# EAGLE library part MP6530 (library my_ic)
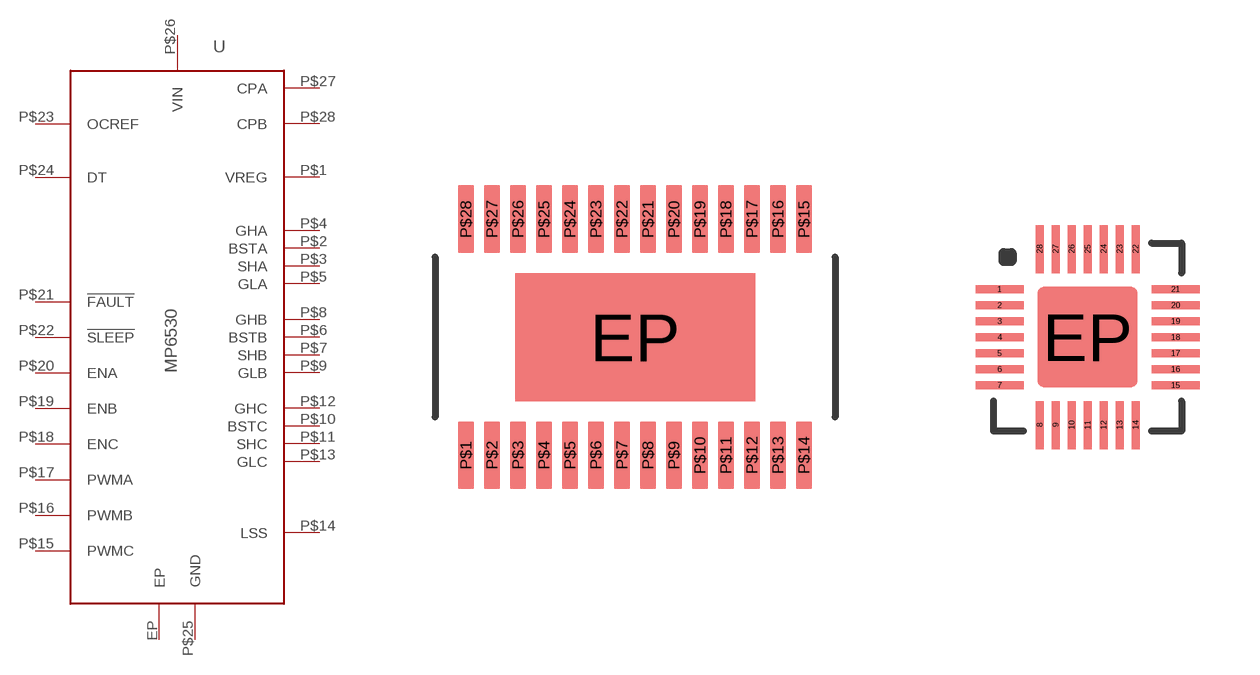
[diagram p25: symbol with the pads of TSSOP-28-EP; footprints TSSOP-28-EP, QFN-28]

Designator prefix -

## MP6530TSSOP-28-EP  [TSSOP-28-EP]
EP  EP
P$1  VREG
P$2  BSTA
P$3  SHA
P$4  GHA
P$5  GLA
P$6  BSTB
P$7  SHB
P$8  GHB
P$9  GLB
P$10  BSTC
P$11  SHC
P$12  GHC
P$13  GLC
P$14  LSS
P$15  PWMC
P$16  PWMB
P$17  PWMA
P$18  ENC
P$19  ENB
P$20  ENA
P$21  !FAULT
P$22  !SLEEP
P$23  OCREF
P$24  DT
P$25  GND
P$26  VIN
P$27  CPA
P$28  CPB

## MP6530QFN-28-EP  [QFN-28]
1  VIN
2  CPA
3  CPB
4  VREG
5  BSTA
6  SHA
7  GHA
8  GLA
9  BSTB
10  SHB
11  GHB
12  GLB
13  BSTC
14  SHC
15  GHC
16  GLC
17  LSS
18  PWMC
19  PWMB
20  PWMA
21  ENC
22  ENB
23  ENA
24  !FAULT
25  !SLEEP
26  OCREF
27  DT
28  GND
EP  EP

## Footprint TSSOP-28-EP (pad centres in mm)
smd 6 x 3.2: EP 0,0
smd 0.4 x 1.7: P$1 -4.225,-2.95; P$2 -3.575,-2.95; P$3 -2.925,-2.95; P$4 -2.275,-2.95; P$5 -1.625,-2.95; P$6 -0.975,-2.95; P$7 -0.325,-2.95; P$8 0.325,-2.95; P$9 0.975,-2.95; P$10 1.625,-2.95; P$11 2.275,-2.95; P$12 2.925,-2.95; P$13 3.575,-2.95; P$14 4.225,-2.95; P$15 4.225,2.95; P$16 3.575,2.95; P$17 2.925,2.95; P$18 2.275,2.95; P$19 1.625,2.95; P$20 0.975,2.95; P$21 0.325,2.95; P$22 -0.325,2.95; P$23 -0.975,2.95; P$24 -1.625,2.95; P$25 -2.275,2.95; P$26 -2.925,2.95; P$27 -3.575,2.95; P$28 -4.225,2.95

## Footprint QFN-28 (pad centres in mm)
smd 1.2 x 0.2: 1 -2.2,1.2; 2 -2.2,0.8; 3 -2.2,0.4; 4 -2.2,0; 5 -2.2,-0.4; 6 -2.2,-0.8; 7 -2.2,-1.2; 15 2.2,-1.2; 16 2.2,-0.8; 17 2.2,-0.4; 18 2.2,0; 19 2.2,0.4; 20 2.2,0.8; 21 2.2,1.2
smd 0.2 x 1.2: 8 -1.2,-2.2; 9 -0.8,-2.2; 10 -0.4,-2.2; 11 0,-2.2; 12 0.4,-2.2; 13 0.8,-2.2; 14 1.2,-2.2; 22 1.2,2.2; 23 0.8,2.2; 24 0.4,2.2; 25 0,2.2; 26 -0.4,2.2; 27 -0.8,2.2; 28 -1.2,2.2
smd 2.5 x 2.5: EP 0,0